# Altium integrated library Atmel Communication ICs.IntLib: 82 symbols (part 3 of 3)
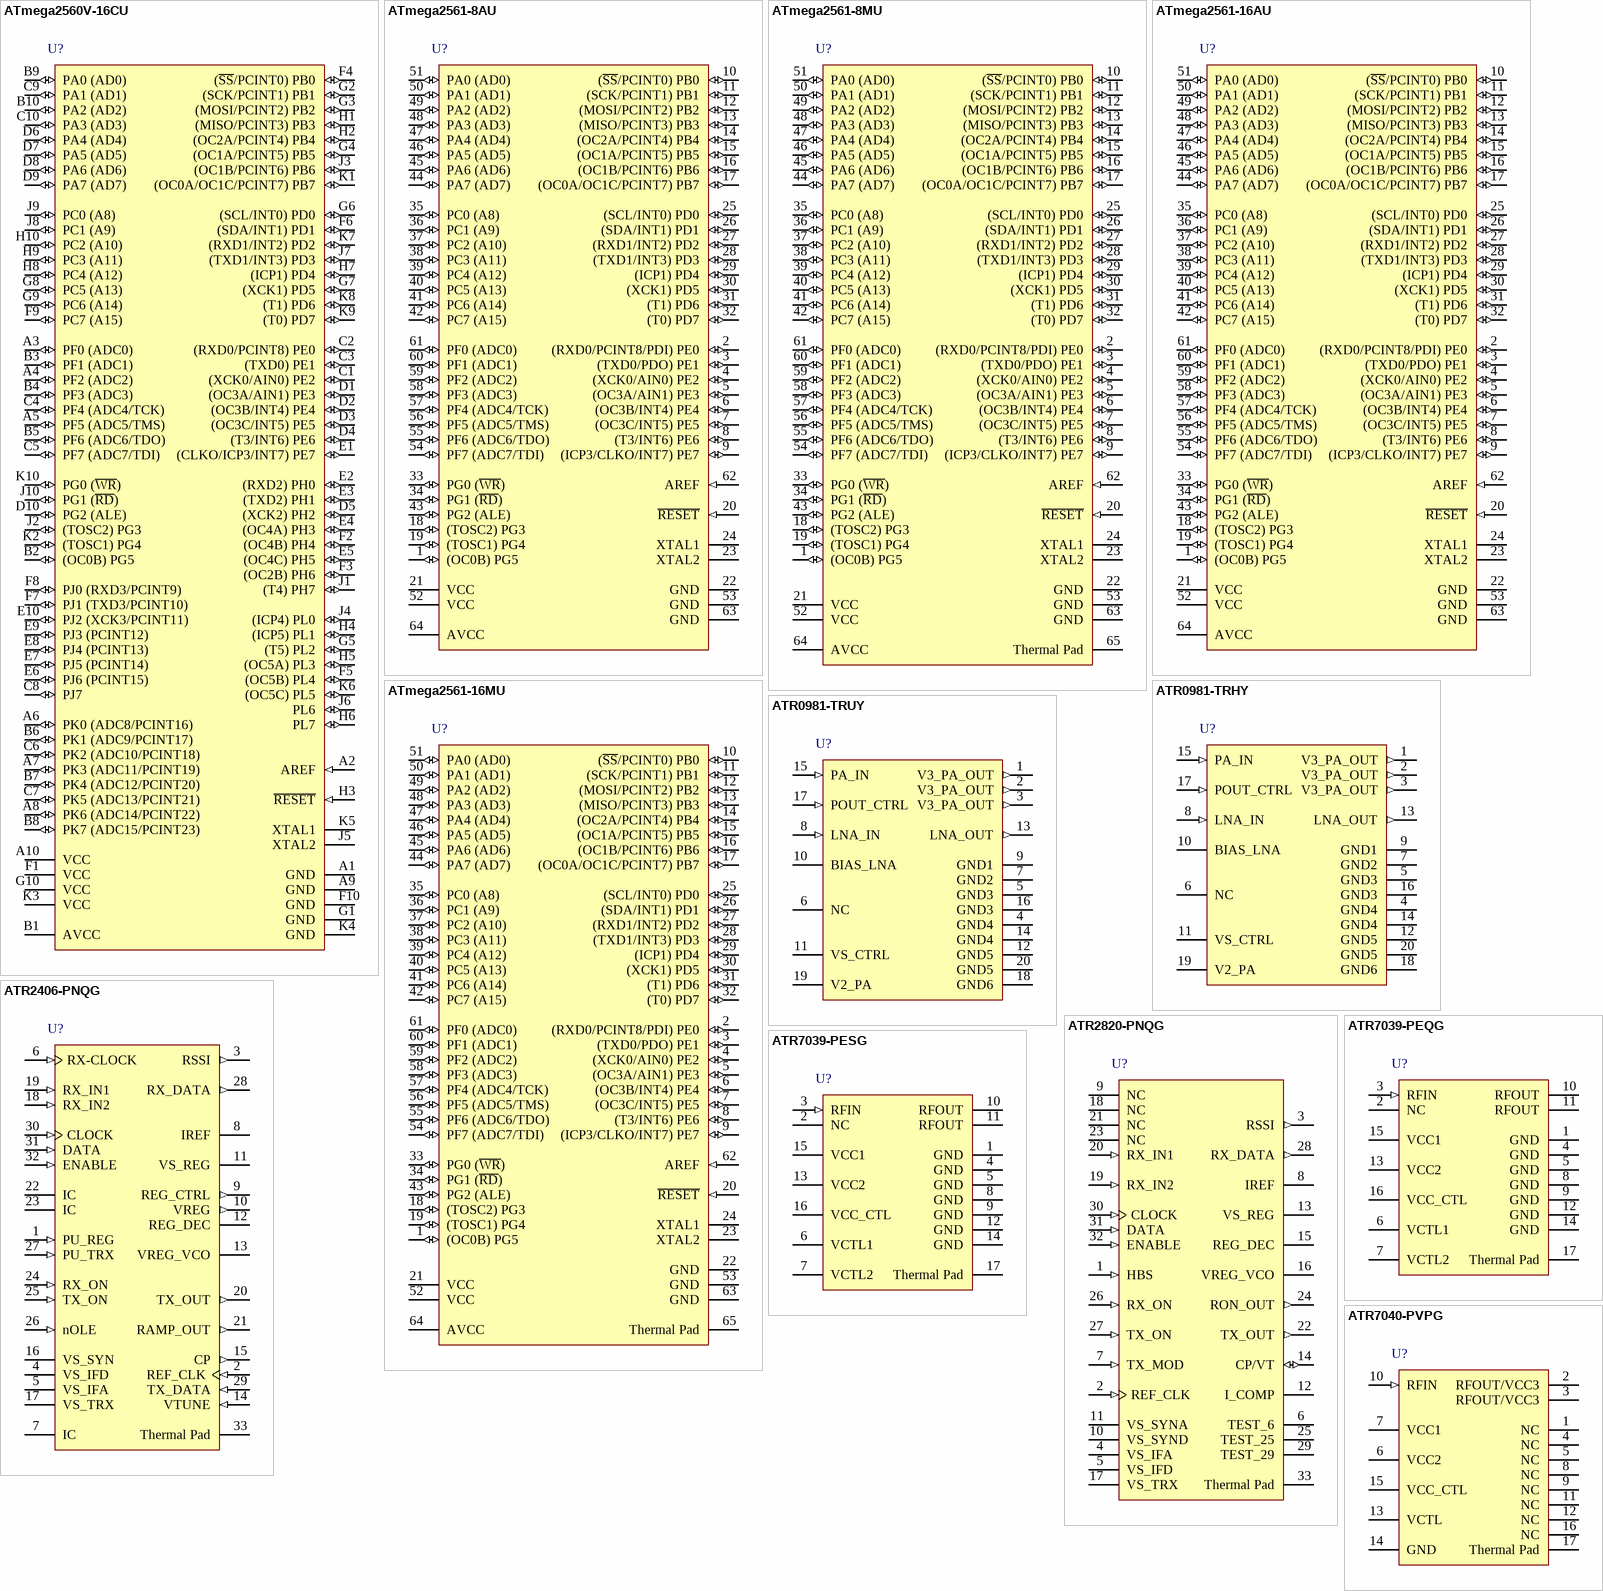
[diagram p10: symbols ATmega2560V-16CU to ATR7040-PVPG]

## ATR2406-PNQG
designator U?
Low-IF 2.4 GHz ISM Transceiver, 32-Pin QFN Pkg, Taped and Reeled, Pb-Free; DatasheetVersion: revN, Dec-2008; PackageVersion: rev1, Jan-2003; PackageReference: 32QFN5X5; PackageDescription: 32-Pin Quad Flat No-Lead (QFN) Sawn,  5 x 5 x 1.0 mm Body, Pitch 0.50 mm, 3.70mm Exposed Pad; ComponentLink1Description: Manufacturer URL; ComponentLink1URL: http://www.atmel.com/; ComponentLink2Description: ATR2406 Datasheet; ComponentLink2URL: http://www.atmel.com/dyn/resources/prod_documents/doc4779.pdf
footprint 32QFN5X5_N (QFN, 32-Leads, Body 5x5mm, Pitch 0.5mm, Thermal Pad 3.8x3.8mm, IPC Medium Density)
footprint 32QFN5X5_L (QFN, 32-Leads, Body 5x5mm, Pitch 0.5mm, Thermal Pad 3.8x3.8mm, IPC High Density)
footprint 32QFN5X5_M (QFN, 32-Leads, Body 5x5mm, Pitch 0.5mm, Thermal Pad 3.8x3.8mm, IPC Low Density)
pins: 1 PU_REG (in), 2 REF_CLK (in), 3 RSSI (out), 4 VS_IFD (power), 5 VS_IFA (power), 6 RX-CLOCK (in), 7 IC (power), 8 IREF, 9 REG_CTRL (out), 10 VREG (out), 11 VS_REG (power), 12 REG_DEC, 13 VREG_VCO (power), 14 VTUNE (in), 15 CP (out), 16 VS_SYN (power), 17 VS_TRX (power), 18 RX_IN2 (in), 19 RX_IN1 (in), 20 TX_OUT (out), 21 RAMP_OUT (out), 22 IC, 23 IC, 24 RX_ON (in), 25 TX_ON (in), 26 nOLE (in), 27 PU_TRX (in), 28 RX_DATA (out), 29 TX_DATA (in), 30 CLOCK (in), 31 DATA (in), 32 ENABLE (in), 33 Thermal Pad (power)

## ATR2820-PNQG
designator U?
Low IF WDCT 5.8 GHz Transceiver, 32-Pin QFN Pkg, Taped and Reeled; DatasheetVersion: revA, Jan-2010; PackageVersion: revH, Nov-2008; PackageReference: 32PN; PackageDescription: 32-Pin Quad Flat No-Lead, 5 x 5 mm Body,  0.5 mm Pitch (QFN); Code_JEDEC: MO-220-VHHD-2; ComponentLink1Description: Manufacturer URL; ComponentLink1URL: http://www.atmel.com/; ComponentLink2Description: ATR2820 Datasheet; ComponentLink2URL: http://www.atmel.com/dyn/resources/prod_documents/doc4704.pdf
footprint 32PN_N (QFN, 32-Leads, Body 5x5mm, Pitch 0.5mm, Thermal Pad 3.2x3.2mm, IPC Medium Density)
footprint 32PN_L (QFN, 32-Leads, Body 5x5mm, Pitch 0.5mm, Thermal Pad 3.2x3.2mm, IPC High Density)
footprint 32PN_M (QFN, 32-Leads, Body 5x5mm, Pitch 0.5mm, Thermal Pad 3.2x3.2mm, IPC Low Density)
pins: 1 HBS (in), 2 REF_CLK (in), 3 RSSI (out), 4 VS_IFA (power), 5 VS_IFD (power), 6 TEST_6, 7 TX_MOD (in), 8 IREF, 9 NC, 10 VS_SYND (power), 11 VS_SYNA (power), 12 I_COMP, 13 VS_REG (power), 14 CP/VT (io), 15 REG_DEC, 16 VREG_VCO (power), 17 VS_TRX (power), 18 NC, 19 RX_IN2 (in), 20 RX_IN1 (in), 21 NC, 22 TX_OUT (out), 23 NC, 24 RON_OUT (out), 25 TEST_25, 26 RX_ON (in), 27 TX_ON (in), 28 RX_DATA (out), 29 TEST_29, 30 CLOCK (in), 31 DATA (in), 32 ENABLE (in), 33 Thermal Pad (power)

## ATR7039-PEQG
designator U?
2.9 to 5.8 GHz SiGe Frequency Doubler IC, 16-Pin QFN Pkg, Taped and Reeled, MOQ 6000, Pb-Free; DatasheetVersion: revE, Jul-2005; PackageVersion: rev2, Jan-2003; PackageReference: 16QFN4X4; PackageDescription: 16-Pin Quad Flat No-Lead, 4 x 4 mm Body, 0.65 mm Pitch, 2.1 x 2.1 mm Exposed Pad; Code_JEDEC: MO-220; ComponentLink1Description: Manufacturer URL; ComponentLink1URL: http://www.atmel.com/; ComponentLink2Description: ATR7039 Datasheet; ComponentLink2URL: http://www.atmel.com/dyn/resources/prod_documents/doc4786.pdf
footprint 16QFN4X4_N (QFN, 16-Leads, Body 4x4mm, Pitch 0.65mm, Thermal Pad 2.2x2.2mm, IPC Medium Density)
footprint 16QFN4X4_L (QFN, 16-Leads, Body 4x4mm, Pitch 0.65mm, Thermal Pad 2.2x2.2mm, IPC High Density)
footprint 16QFN4X4_M (QFN, 16-Leads, Body 4x4mm, Pitch 0.65mm, Thermal Pad 2.2x2.2mm, IPC Low Density)
pins: 1 GND (power), 2 NC, 3 RFIN (in), 4 GND (power), 5 GND (power), 6 VCTL1 (power), 7 VCTL2 (power), 8 GND (power), 9 GND (power), 10 RFOUT (power), 11 RFOUT (power), 12 GND (power), 13 VCC2 (power), 14 GND (power), 15 VCC1 (power), 16 VCC_CTL (power), 17 Thermal Pad (power)

## ATR7039-PESG
designator U?
2.9 to 5.8 GHz SiGe Frequency Doubler IC, 16-Pin QFN Pkg, Tube, MOQ 750, Pb-Free; DatasheetVersion: revE, Jul-2005; PackageVersion: rev2, Jan-2003; PackageReference: 16QFN4X4; PackageDescription: 16-Pin Quad Flat No-Lead, 4 x 4 mm Body, 0.65 mm Pitch, 2.1 x 2.1 mm Exposed Pad; Code_JEDEC: MO-220; ComponentLink1Description: Manufacturer URL; ComponentLink1URL: http://www.atmel.com/; ComponentLink2Description: ATR7039 Datasheet; ComponentLink2URL: http://www.atmel.com/dyn/resources/prod_documents/doc4786.pdf
footprint 16QFN4X4_N (QFN, 16-Leads, Body 4x4mm, Pitch 0.65mm, Thermal Pad 2.2x2.2mm, IPC Medium Density)
footprint 16QFN4X4_L (QFN, 16-Leads, Body 4x4mm, Pitch 0.65mm, Thermal Pad 2.2x2.2mm, IPC High Density)
footprint 16QFN4X4_M (QFN, 16-Leads, Body 4x4mm, Pitch 0.65mm, Thermal Pad 2.2x2.2mm, IPC Low Density)
pins: 1 GND (power), 2 NC, 3 RFIN (in), 4 GND (power), 5 GND (power), 6 VCTL1 (power), 7 VCTL2 (power), 8 GND (power), 9 GND (power), 10 RFOUT (power), 11 RFOUT (power), 12 GND (power), 13 VCC2 (power), 14 GND (power), 15 VCC1 (power), 16 VCC_CTL (power), 17 Thermal Pad (power)

## ATR7040-PVPG
designator U?
5.8 GHz WDCT Power Amplifier, 16-Pin QFN Pkg, Taped and Reeled, MOQ 2000, Pb-Free; DatasheetVersion: revC, May-2006; PackageVersion: rev1, Mar-2005; PackageReference: 16QFN3X3; PackageDescription: 16-Pin Quad Flat No-Lead, 3 x 3 mm Body, 0.5 mm Pitch, 1.7 x 1.7 mm Exposed Pad; Code_JEDEC: MO-220; ComponentLink1Description: Manufacturer URL; ComponentLink1URL: http://www.atmel.com/; ComponentLink2Description: ATR7040 Datasheet; ComponentLink2URL: http://www.atmel.com/dyn/resources/prod_documents/doc4868.pdf
footprint 16QFN3X3_N (QFN, 16-Leads, Body 3x3mm, Pitch 0.5mm, Thermal Pad 1.8x1.8mm, IPC Medium Density)
footprint 16QFN3X3_L (QFN, 16-Leads, Body 3x3mm, Pitch 0.5mm, Thermal Pad 1.8x1.8mm, IPC High Density)
footprint 16QFN3X3_M (QFN, 16-Leads, Body 3x3mm, Pitch 0.5mm, Thermal Pad 1.8x1.8mm, IPC Low Density)
pins: 1 NC, 2 RFOUT/VCC3 (power), 3 RFOUT/VCC3 (power), 4 NC, 5 NC, 6 VCC2 (power), 7 VCC1 (power), 8 NC, 9 NC, 10 RFIN (in), 11 NC, 12 NC, 13 VCTL (power), 14 GND (power), 15 VCC_CTL (power), 16 NC, 17 Thermal Pad (power)

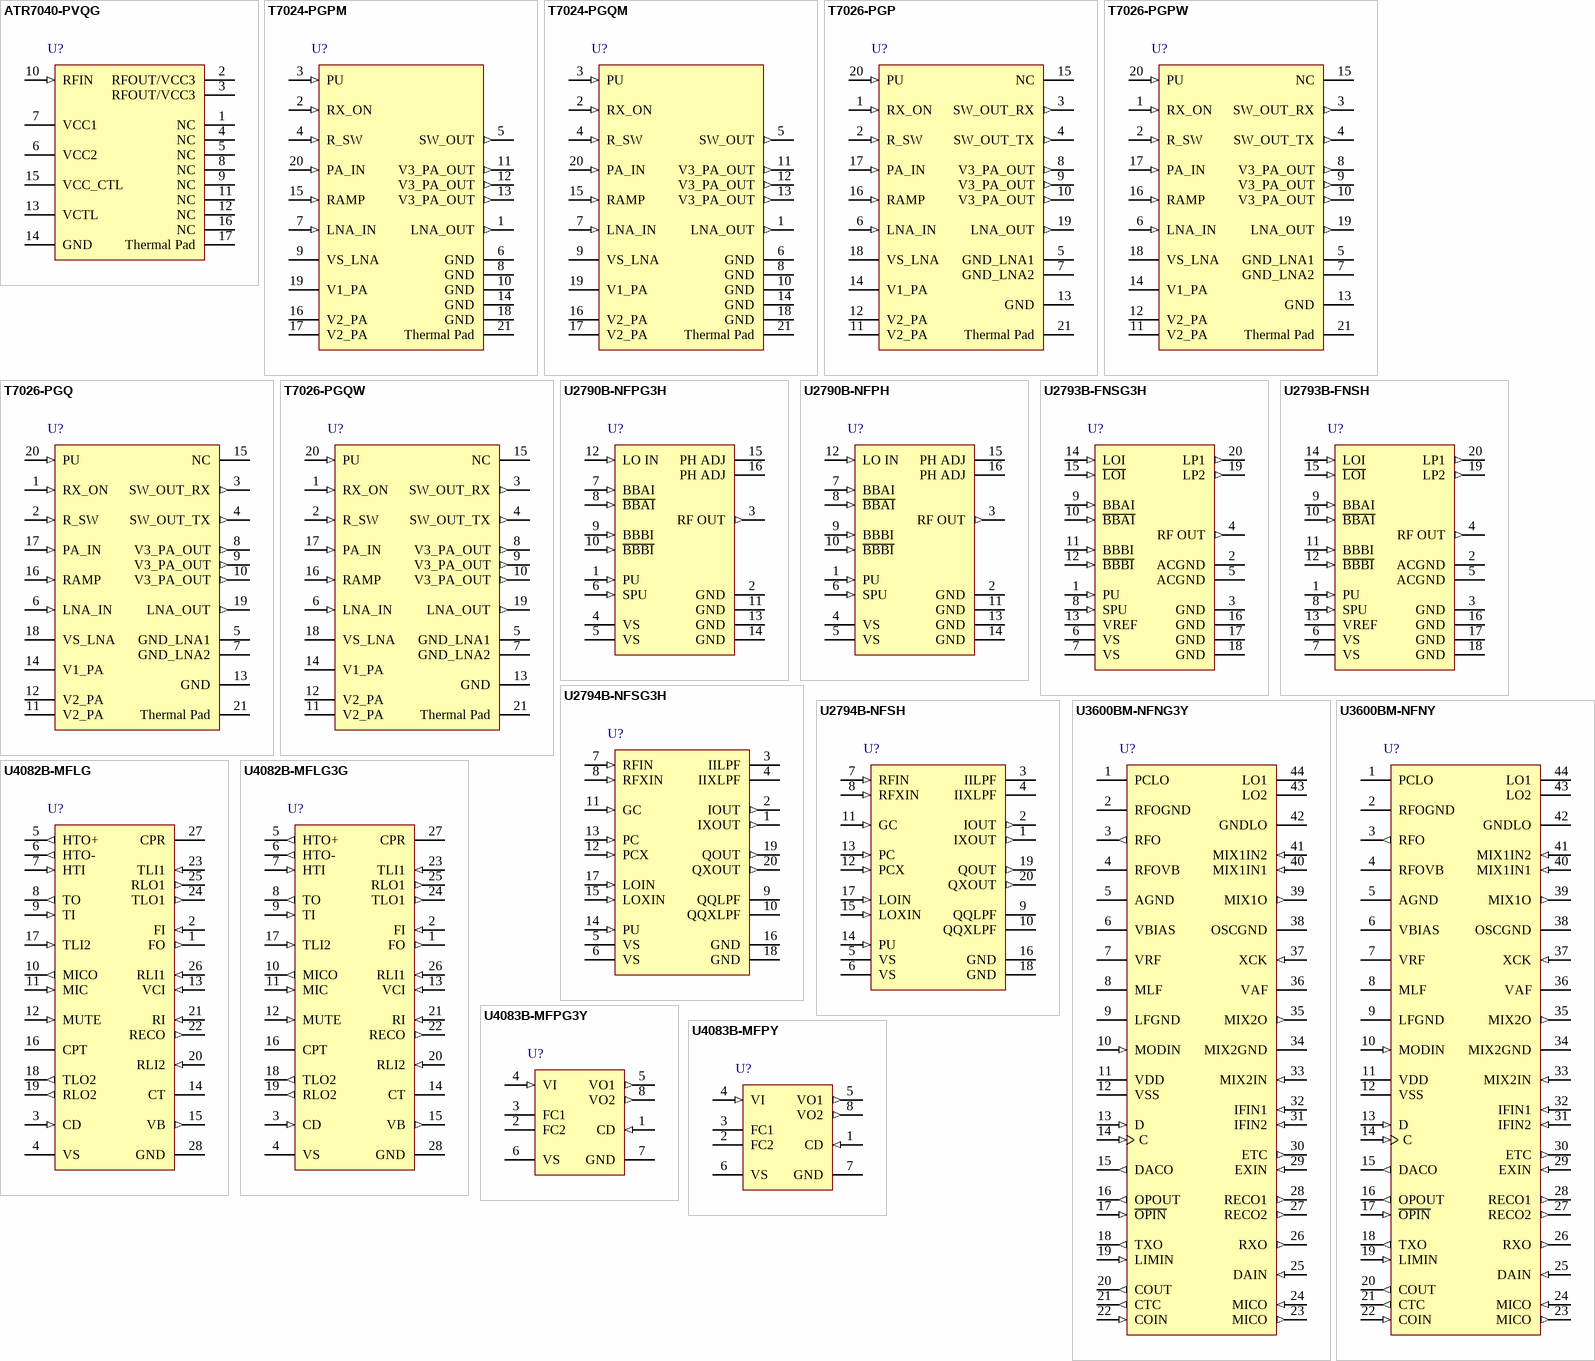
[diagram p7: symbols ATR7040-PVQG to U4083B-MFPY]

## ATR7040-PVQG
designator U?
5.8 GHz WDCT Power Amplifier, 16-Pin QFN Pkg, Taped and Reeled, MOQ 8000, Pb-Free; DatasheetVersion: revC, May-2006; PackageVersion: rev1, Mar-2005; PackageReference: 16QFN3X3; PackageDescription: 16-Pin Quad Flat No-Lead, 3 x 3 mm Body, 0.5 mm Pitch, 1.7 x 1.7 mm Exposed Pad; Code_JEDEC: MO-220; ComponentLink1Description: Manufacturer URL; ComponentLink1URL: http://www.atmel.com/; ComponentLink2Description: ATR7040 Datasheet; ComponentLink2URL: http://www.atmel.com/dyn/resources/prod_documents/doc4868.pdf
footprint 16QFN3X3_N (QFN, 16-Leads, Body 3x3mm, Pitch 0.5mm, Thermal Pad 1.8x1.8mm, IPC Medium Density)
footprint 16QFN3X3_L (QFN, 16-Leads, Body 3x3mm, Pitch 0.5mm, Thermal Pad 1.8x1.8mm, IPC High Density)
footprint 16QFN3X3_M (QFN, 16-Leads, Body 3x3mm, Pitch 0.5mm, Thermal Pad 1.8x1.8mm, IPC Low Density)
pins: 1 NC, 2 RFOUT/VCC3 (power), 3 RFOUT/VCC3 (power), 4 NC, 5 NC, 6 VCC2 (power), 7 VCC1 (power), 8 NC, 9 NC, 10 RFIN (in), 11 NC, 12 NC, 13 VCTL (power), 14 GND (power), 15 VCC_CTL (power), 16 NC, 17 Thermal Pad (power)

## T7024-PGPM
designator U?
Bluetooth ISM 2.4 GHz Tx/Rx Front End IC, 20-Pin QFN Pkg, Taped and Reeled, Pb-Free, Halogen-Free, 1500 pcs; DatasheetVersion: revI, Jan-2009; PackageVersion: rev1, Dec-2002; PackageReference: QFN20; PackageDescription: 20-Pin Quad Flat No-Lead, 5 x 5 mm Body, 0.65 mm Pitch, 3.1 x 3.1 mm Exposed Pad; ComponentLink1Description: Manufacturer URL; ComponentLink1URL: http://www.atmel.com/; ComponentLink2Description: T7024 Datasheet; ComponentLink2URL: http://www.atmel.com/dyn/resources/prod_documents/doc4533.pdf
footprint QFN20_N (QFN, 20-Leads, Body 5x5mm, Pitch 0.65mm, Thermal Pad 3.2x3.2mm, IPC Medium Density)
footprint QFN20_L (QFN, 20-Leads, Body 5x5mm, Pitch 0.65mm, Thermal Pad 3.2x3.2mm, IPC High Density)
footprint QFN20_M (QFN, 20-Leads, Body 5x5mm, Pitch 0.65mm, Thermal Pad 3.2x3.2mm, IPC Low Density)
pins: 1 LNA_OUT (out), 2 RX_ON (in), 3 PU (in), 4 R_SW (in), 5 SW_OUT (out), 6 GND (power), 7 LNA_IN (in), 8 GND (power), 9 VS_LNA (power), 10 GND (power), 11 V3_PA_OUT (out), 12 V3_PA_OUT (out), 13 V3_PA_OUT (out), 14 GND (power), 15 RAMP (in), 16 V2_PA (power), 17 V2_PA (power), 18 GND (power), 19 V1_PA (power), 20 PA_IN (in), 21 Thermal Pad (power)

## T7024-PGQM
designator U?
Bluetooth ISM 2.4 GHz Tx/Rx Front End IC, 20-Pin QFN Pkg, Taped and Reeled, Pb-Free, Halogen-Free, 6000 pcs; DatasheetVersion: revI, Jan-2009; PackageVersion: rev1, Dec-2002; PackageReference: QFN20; PackageDescription: 20-Pin Quad Flat No-Lead, 5 x 5 mm Body, 0.65 mm Pitch, 3.1 x 3.1 mm Exposed Pad; ComponentLink1Description: Manufacturer URL; ComponentLink1URL: http://www.atmel.com/; ComponentLink2Description: T7024 Datasheet; ComponentLink2URL: http://www.atmel.com/dyn/resources/prod_documents/doc4533.pdf
footprint QFN20_N (QFN, 20-Leads, Body 5x5mm, Pitch 0.65mm, Thermal Pad 3.2x3.2mm, IPC Medium Density)
footprint QFN20_L (QFN, 20-Leads, Body 5x5mm, Pitch 0.65mm, Thermal Pad 3.2x3.2mm, IPC High Density)
footprint QFN20_M (QFN, 20-Leads, Body 5x5mm, Pitch 0.65mm, Thermal Pad 3.2x3.2mm, IPC Low Density)
pins: 1 LNA_OUT (out), 2 RX_ON (in), 3 PU (in), 4 R_SW (in), 5 SW_OUT (out), 6 GND (power), 7 LNA_IN (in), 8 GND (power), 9 VS_LNA (power), 10 GND (power), 11 V3_PA_OUT (out), 12 V3_PA_OUT (out), 13 V3_PA_OUT (out), 14 GND (power), 15 RAMP (in), 16 V2_PA (power), 17 V2_PA (power), 18 GND (power), 19 V1_PA (power), 20 PA_IN (in), 21 Thermal Pad (power)

## T7026-PGP
designator U?
2.4 GHz Monolithic SiGe Transmit/Receive front-end IC, 20-Pin QFN Pkg, Taped and Reeled, MOQ 1500; DatasheetVersion: revE, Jul-2005; PackageVersion: rev1, Dec-2002; PackageReference: QFN20; PackageDescription: 20-Pin Quad Flat No-Lead, 5 x 5 mm Body, 0.65 mm Pitch, 3.1 x 3.1 mm Exposed Pad; ComponentLink1Description: Manufacturer URL; ComponentLink1URL: http://www.atmel.com/; ComponentLink2Description: T7026 Datasheet; ComponentLink2URL: http://www.atmel.com/dyn/resources/prod_documents/doc4563.pdf
footprint QFN20_N (QFN, 20-Leads, Body 5x5mm, Pitch 0.65mm, Thermal Pad 3.2x3.2mm, IPC Medium Density)
footprint QFN20_L (QFN, 20-Leads, Body 5x5mm, Pitch 0.65mm, Thermal Pad 3.2x3.2mm, IPC High Density)
footprint QFN20_M (QFN, 20-Leads, Body 5x5mm, Pitch 0.65mm, Thermal Pad 3.2x3.2mm, IPC Low Density)
pins: 1 RX_ON (in), 2 R_SW (in), 3 SW_OUT_RX (out), 4 SW_OUT_TX (out), 5 GND_LNA1 (power), 6 LNA_IN (in), 7 GND_LNA2 (power), 8 V3_PA_OUT (out), 9 V3_PA_OUT (out), 10 V3_PA_OUT (out), 11 V2_PA (power), 12 V2_PA (power), 13 GND (power), 14 V1_PA (power), 15 NC, 16 RAMP (in), 17 PA_IN (in), 18 VS_LNA (power), 19 LNA_OUT (out), 20 PU (in), 21 Thermal Pad (power)

## T7026-PGPW
designator U?
2.4 GHz Monolithic SiGe Transmit/Receive front-end IC, 20-Pin QFN Pkg, Taped and Reeled, MOQ 1500, Pb-Free, Halogen-Free; DatasheetVersion: revE, Jul-2005; PackageVersion: rev1, Dec-2002; PackageReference: QFN20; PackageDescription: 20-Pin Quad Flat No-Lead, 5 x 5 mm Body, 0.65 mm Pitch, 3.1 x 3.1 mm Exposed Pad; ComponentLink1Description: Manufacturer URL; ComponentLink1URL: http://www.atmel.com/; ComponentLink2Description: T7026 Datasheet; ComponentLink2URL: http://www.atmel.com/dyn/resources/prod_documents/doc4563.pdf
footprint QFN20_N (QFN, 20-Leads, Body 5x5mm, Pitch 0.65mm, Thermal Pad 3.2x3.2mm, IPC Medium Density)
footprint QFN20_L (QFN, 20-Leads, Body 5x5mm, Pitch 0.65mm, Thermal Pad 3.2x3.2mm, IPC High Density)
footprint QFN20_M (QFN, 20-Leads, Body 5x5mm, Pitch 0.65mm, Thermal Pad 3.2x3.2mm, IPC Low Density)
pins: 1 RX_ON (in), 2 R_SW (in), 3 SW_OUT_RX (out), 4 SW_OUT_TX (out), 5 GND_LNA1 (power), 6 LNA_IN (in), 7 GND_LNA2 (power), 8 V3_PA_OUT (out), 9 V3_PA_OUT (out), 10 V3_PA_OUT (out), 11 V2_PA (power), 12 V2_PA (power), 13 GND (power), 14 V1_PA (power), 15 NC, 16 RAMP (in), 17 PA_IN (in), 18 VS_LNA (power), 19 LNA_OUT (out), 20 PU (in), 21 Thermal Pad (power)

## T7026-PGQ
designator U?
2.4 GHz Monolithic SiGe Transmit/Receive front-end IC, 20-Pin QFN Pkg, Taped and Reeled, MOQ 6000; DatasheetVersion: revE, Jul-2005; PackageVersion: rev1, Dec-2002; PackageReference: QFN20; PackageDescription: 20-Pin Quad Flat No-Lead, 5 x 5 mm Body, 0.65 mm Pitch, 3.1 x 3.1 mm Exposed Pad; ComponentLink1Description: Manufacturer URL; ComponentLink1URL: http://www.atmel.com/; ComponentLink2Description: T7026 Datasheet; ComponentLink2URL: http://www.atmel.com/dyn/resources/prod_documents/doc4563.pdf
footprint QFN20_N (QFN, 20-Leads, Body 5x5mm, Pitch 0.65mm, Thermal Pad 3.2x3.2mm, IPC Medium Density)
footprint QFN20_L (QFN, 20-Leads, Body 5x5mm, Pitch 0.65mm, Thermal Pad 3.2x3.2mm, IPC High Density)
footprint QFN20_M (QFN, 20-Leads, Body 5x5mm, Pitch 0.65mm, Thermal Pad 3.2x3.2mm, IPC Low Density)
pins: 1 RX_ON (in), 2 R_SW (in), 3 SW_OUT_RX (out), 4 SW_OUT_TX (out), 5 GND_LNA1 (power), 6 LNA_IN (in), 7 GND_LNA2 (power), 8 V3_PA_OUT (out), 9 V3_PA_OUT (out), 10 V3_PA_OUT (out), 11 V2_PA (power), 12 V2_PA (power), 13 GND (power), 14 V1_PA (power), 15 NC, 16 RAMP (in), 17 PA_IN (in), 18 VS_LNA (power), 19 LNA_OUT (out), 20 PU (in), 21 Thermal Pad (power)

## T7026-PGQW
designator U?
2.4 GHz Monolithic SiGe Transmit/Receive front-end IC, 20-Pin QFN Pkg, Taped and Reeled, MOQ 6000, Pb-Free, Halogen-Free; DatasheetVersion: revE, Jul-2005; PackageVersion: rev1, Dec-2002; PackageReference: QFN20; PackageDescription: 20-Pin Quad Flat No-Lead, 5 x 5 mm Body, 0.65 mm Pitch, 3.1 x 3.1 mm Exposed Pad; ComponentLink1Description: Manufacturer URL; ComponentLink1URL: http://www.atmel.com/; ComponentLink2Description: T7026 Datasheet; ComponentLink2URL: http://www.atmel.com/dyn/resources/prod_documents/doc4563.pdf
footprint QFN20_N (QFN, 20-Leads, Body 5x5mm, Pitch 0.65mm, Thermal Pad 3.2x3.2mm, IPC Medium Density)
footprint QFN20_L (QFN, 20-Leads, Body 5x5mm, Pitch 0.65mm, Thermal Pad 3.2x3.2mm, IPC High Density)
footprint QFN20_M (QFN, 20-Leads, Body 5x5mm, Pitch 0.65mm, Thermal Pad 3.2x3.2mm, IPC Low Density)
pins: 1 RX_ON (in), 2 R_SW (in), 3 SW_OUT_RX (out), 4 SW_OUT_TX (out), 5 GND_LNA1 (power), 6 LNA_IN (in), 7 GND_LNA2 (power), 8 V3_PA_OUT (out), 9 V3_PA_OUT (out), 10 V3_PA_OUT (out), 11 V2_PA (power), 12 V2_PA (power), 13 GND (power), 14 V1_PA (power), 15 NC, 16 RAMP (in), 17 PA_IN (in), 18 VS_LNA (power), 19 LNA_OUT (out), 20 PU (in), 21 Thermal Pad (power)

## U2790B-NFPG3H
designator U?
1000 MHz Quadrature Modulator for Digital Cellular Radio Systems, 16-Pin SOIC Pkg, Taped and Reeled, Pb-Free; DatasheetVersion: revD, Jul-2006; PackageVersion: 1/02/2007; PackageReference: SO16; PackageDescription: 16-Pin Small Outline Integrated Circuit 1.27 mm Pitch; ComponentLink1Description: Manufacturer URL; ComponentLink1URL: http://www.atmel.com/; ComponentLink2Description: U2790B Datasheet; ComponentLink2URL: http://www.atmel.com/dyn/resources/prod_documents/doc4583.pdf
footprint SO16_N (SOIC, 16-Leads, Body 9.9x3.8mm, Pitch 1.27mm, IPC Medium Density)
footprint SO16_L (SOIC, 16-Leads, Body 9.9x3.8mm, Pitch 1.27mm, IPC High Density)
footprint SO16_M (SOIC, 16-Leads, Body 9.9x3.8mm, Pitch 1.27mm, IPC Low Density)
pins: 1 PU (in), 2 GND (power), 3 RF OUT (out), 4 VS (power), 5 VS (power), 6 SPU (in), 7 BBAI (in), 8 ~{BBAI} (in), 9 BBBI (in), 10 ~{BBBI} (in), 11 GND (power), 12 LO IN (in), 13 GND (power), 14 GND (power), 15 PH ADJ, 16 PH ADJ

## U2790B-NFPH
designator U?
1000 MHz Quadrature Modulator for Digital Cellular Radio Systems, 16-Pin SOIC Pkg, Tube, Pb-Free; DatasheetVersion: revD, Jul-2006; PackageVersion: 1/02/2007; PackageReference: SO16; PackageDescription: 16-Pin Small Outline Integrated Circuit 1.27 mm Pitch; ComponentLink1Description: Manufacturer URL; ComponentLink1URL: http://www.atmel.com/; ComponentLink2Description: U2790B Datasheet; ComponentLink2URL: http://www.atmel.com/dyn/resources/prod_documents/doc4583.pdf
footprint SO16_N (SOIC, 16-Leads, Body 9.9x3.8mm, Pitch 1.27mm, IPC Medium Density)
footprint SO16_L (SOIC, 16-Leads, Body 9.9x3.8mm, Pitch 1.27mm, IPC High Density)
footprint SO16_M (SOIC, 16-Leads, Body 9.9x3.8mm, Pitch 1.27mm, IPC Low Density)
pins: 1 PU (in), 2 GND (power), 3 RF OUT (out), 4 VS (power), 5 VS (power), 6 SPU (in), 7 BBAI (in), 8 ~{BBAI} (in), 9 BBBI (in), 10 ~{BBBI} (in), 11 GND (power), 12 LO IN (in), 13 GND (power), 14 GND (power), 15 PH ADJ, 16 PH ADJ

## U2793B-FNSG3H
designator U?
300 MHz Quadrature Modulator for Digital Cellular Radio Systems & Hybrid Fiber Coax Applications, 20-Pin SSOP Pkg, Taped and Reeled, Pb-Free; DatasheetVersion: revE, Jul-2006; PackageVersion: 1/09/2005; PackageReference: SSO20; PackageDescription: 20-Pin Shrink SOP, 6.6 x 4.4 x 1.3 mm Body, 0.65 mm Pitch; ComponentLink1Description: Manufacturer URL; ComponentLink1URL: http://www.atmel.com/; ComponentLink2Description: U2793B Datasheet; ComponentLink2URL: http://www.atmel.com/dyn/resources/prod_documents/doc4651.pdf
footprint SSO20_N (SOP, 20-Leads, Body 6.6x4.4mm, Pitch 0.65mm, IPC Medium Density)
footprint SSO20_L (SOP, 20-Leads, Body 6.6x4.4mm, Pitch 0.65mm, IPC High Density)
footprint SSO20_M (SOP, 20-Leads, Body 6.6x4.4mm, Pitch 0.65mm, IPC Low Density)
pins: 1 PU (in), 2 ACGND (power), 3 GND (power), 4 RF OUT (out), 5 ACGND (power), 6 VS (power), 7 VS (power), 8 SPU (in), 9 BBAI (in), 10 ~{BBAI} (in), 11 BBBI (in), 12 ~{BBBI} (in), 13 VREF (power), 14 LOI (in), 15 ~{LOI} (in), 16 GND (power), 17 GND (power), 18 GND (power), 19 LP2 (out), 20 LP1 (out)

## U2793B-FNSH
designator U?
300 MHz Quadrature Modulator for Digital Cellular Radio Systems & Hybrid Fiber Coax Applications, 20-Pin SSOP Pkg, Tube, Pb-Free; DatasheetVersion: revE, Jul-2006; PackageVersion: 1/09/2005; PackageReference: SSO20; PackageDescription: 20-Pin Shrink SOP, 6.6 x 4.4 x 1.3 mm Body, 0.65 mm Pitch; ComponentLink1Description: Manufacturer URL; ComponentLink1URL: http://www.atmel.com/; ComponentLink2Description: U2793B Datasheet; ComponentLink2URL: http://www.atmel.com/dyn/resources/prod_documents/doc4651.pdf
footprint SSO20_N (SOP, 20-Leads, Body 6.6x4.4mm, Pitch 0.65mm, IPC Medium Density)
footprint SSO20_L (SOP, 20-Leads, Body 6.6x4.4mm, Pitch 0.65mm, IPC High Density)
footprint SSO20_M (SOP, 20-Leads, Body 6.6x4.4mm, Pitch 0.65mm, IPC Low Density)
pins: 1 PU (in), 2 ACGND (power), 3 GND (power), 4 RF OUT (out), 5 ACGND (power), 6 VS (power), 7 VS (power), 8 SPU (in), 9 BBAI (in), 10 ~{BBAI} (in), 11 BBBI (in), 12 ~{BBBI} (in), 13 VREF (power), 14 LOI (in), 15 ~{LOI} (in), 16 GND (power), 17 GND (power), 18 GND (power), 19 LP2 (out), 20 LP1 (out)

## U2794B-NFSG3H
designator U?
1000 MHz Quadrature Demodulator for Cellular Phones & Hybrid Fiber Coax Applications, 20-Pin SSOP Pkg, Taped and Reeled, MOQ 4000 pcs, Pb-Free; DatasheetVersion: revF, Nov-2008; PackageVersion: 1/09/2005; PackageReference: SSO20; PackageDescription: 20-Pin Shrink SOP, 6.6 x 4.4 x 1.3 mm Body, 0.65 mm Pitch; ComponentLink1Description: Manufacturer URL; ComponentLink1URL: http://www.atmel.com/; ComponentLink2Description: U2794B Datasheet; ComponentLink2URL: http://www.atmel.com/dyn/resources/prod_documents/doc4653.pdf
footprint SSO20_N (SOP, 20-Leads, Body 6.6x4.4mm, Pitch 0.65mm, IPC Medium Density)
footprint SSO20_L (SOP, 20-Leads, Body 6.6x4.4mm, Pitch 0.65mm, IPC High Density)
footprint SSO20_M (SOP, 20-Leads, Body 6.6x4.4mm, Pitch 0.65mm, IPC Low Density)
pins: 1 IXOUT (out), 2 IOUT (out), 3 IILPF, 4 IIXLPF, 5 VS (power), 6 VS (power), 7 RFIN (in), 8 RFXIN (in), 9 QQLPF, 10 QQXLPF, 11 GC (in), 12 PCX (in), 13 PC (in), 14 PU (in), 15 LOXIN (in), 16 GND (power), 17 LOIN (in), 18 GND (power), 19 QOUT (out), 20 QXOUT (out)

## U2794B-NFSH
designator U?
1000 MHz Quadrature Demodulator for Cellular Phones & Hybrid Fiber Coax Applications, 20-Pin SSOP Pkg, Tube, MOQ 830 pcs, Pb-Free; DatasheetVersion: revF, Nov-2008; PackageVersion: 1/09/2005; PackageReference: SSO20; PackageDescription: 20-Pin Shrink SOP, 6.6 x 4.4 x 1.3 mm Body, 0.65 mm Pitch; ComponentLink1Description: Manufacturer URL; ComponentLink1URL: http://www.atmel.com/; ComponentLink2Description: U2794B Datasheet; ComponentLink2URL: http://www.atmel.com/dyn/resources/prod_documents/doc4653.pdf
footprint SSO20_N (SOP, 20-Leads, Body 6.6x4.4mm, Pitch 0.65mm, IPC Medium Density)
footprint SSO20_L (SOP, 20-Leads, Body 6.6x4.4mm, Pitch 0.65mm, IPC High Density)
footprint SSO20_M (SOP, 20-Leads, Body 6.6x4.4mm, Pitch 0.65mm, IPC Low Density)
pins: 1 IXOUT (out), 2 IOUT (out), 3 IILPF, 4 IIXLPF, 5 VS (power), 6 VS (power), 7 RFIN (in), 8 RFXIN (in), 9 QQLPF, 10 QQXLPF, 11 GC (in), 12 PCX (in), 13 PC (in), 14 PU (in), 15 LOXIN (in), 16 GND (power), 17 LOIN (in), 18 GND (power), 19 QOUT (out), 20 QXOUT (out)

## U3600BM-NFNG3Y
designator U?
Single-Chip cordless Telephone IC, 44-Pin SOP Pkg, Taped and Reeled, Pb-Free; DatasheetVersion: revD, Oct-2005; PackageVersion: 1/10/2005; PackageReference: SSO44; PackageDescription: 44-Pin Small Outline Package, 18.05 x 7.4 x 2.35 mm Body, 0.8 mm Pitch; ComponentLink1Description: Manufacturer URL; ComponentLink1URL: http://www.atmel.com/; ComponentLink2Description: U3600BM Datasheet; ComponentLink2URL: http://www.atmel.com/dyn/resources/prod_documents/doc4516.pdf
footprint SSO44_N (SOP, 44-Leads, Body 17.9x7.4mm, Pitch 0.8mm, IPC Medium Density)
footprint SSO44_L (SOP, 44-Leads, Body 17.9x7.4mm, Pitch 0.8mm, IPC High Density)
footprint SSO44_M (SOP, 44-Leads, Body 17.9x7.4mm, Pitch 0.8mm, IPC Low Density)
pins: 1 PCLO, 2 RFOGND (power), 3 RFO (out), 4 RFOVB (power), 5 AGND (power), 6 VBIAS, 7 VRF (power), 8 MLF, 9 LFGND (power), 10 MODIN (in), 11 VDD (power), 12 VSS (power), 13 D (in), 14 C (in), 15 DACO (out), 16 OPOUT (out), 17 ~{OPIN} (in), 18 TXO (out), 19 LIMIN (in), 20 COUT (out), 21 CTC (out), 22 COIN (in), 23 MICO (out), 24 MICO (in), 25 DAIN (in), 26 RXO (out), 27 RECO2 (out), 28 RECO1 (out), 29 EXIN (in), 30 ETC (out), 31 IFIN2 (in), 32 IFIN1 (in), 33 MIX2IN (in), 34 MIX2GND (power), 35 MIX2O (out), 36 VAF (power), 37 XCK (in), 38 OSCGND (power), 39 MIX1O (out), 40 MIX1IN1 (in), 41 MIX1IN2 (in), 42 GNDLO (power), 43 LO2, 44 LO1

## U3600BM-NFNY
designator U?
Single-Chip cordless Telephone IC, 44-Pin SOP Pkg, Tube, Pb-Free; DatasheetVersion: revD, Oct-2005; PackageVersion: 1/10/2005; PackageReference: SSO44; PackageDescription: 44-Pin Small Outline Package, 18.05 x 7.4 x 2.35 mm Body, 0.8 mm Pitch; ComponentLink1Description: Manufacturer URL; ComponentLink1URL: http://www.atmel.com/; ComponentLink2Description: U3600BM Datasheet; ComponentLink2URL: http://www.atmel.com/dyn/resources/prod_documents/doc4516.pdf
footprint SSO44_N (SOP, 44-Leads, Body 17.9x7.4mm, Pitch 0.8mm, IPC Medium Density)
footprint SSO44_L (SOP, 44-Leads, Body 17.9x7.4mm, Pitch 0.8mm, IPC High Density)
footprint SSO44_M (SOP, 44-Leads, Body 17.9x7.4mm, Pitch 0.8mm, IPC Low Density)
pins: 1 PCLO, 2 RFOGND (power), 3 RFO (out), 4 RFOVB (power), 5 AGND (power), 6 VBIAS, 7 VRF (power), 8 MLF, 9 LFGND (power), 10 MODIN (in), 11 VDD (power), 12 VSS (power), 13 D (in), 14 C (in), 15 DACO (out), 16 OPOUT (out), 17 ~{OPIN} (in), 18 TXO (out), 19 LIMIN (in), 20 COUT (out), 21 CTC (out), 22 COIN (in), 23 MICO (out), 24 MICO (in), 25 DAIN (in), 26 RXO (out), 27 RECO2 (out), 28 RECO1 (out), 29 EXIN (in), 30 ETC (out), 31 IFIN2 (in), 32 IFIN1 (in), 33 MIX2IN (in), 34 MIX2GND (power), 35 MIX2O (out), 36 VAF (power), 37 XCK (in), 38 OSCGND (power), 39 MIX1O (out), 40 MIX1IN1 (in), 41 MIX1IN2 (in), 42 GNDLO (power), 43 LO2, 44 LO1

## U4082B-MFLG
designator U?
Low-Voltage Voice-Switched IC for Hands-Free Operation, 28-Pin SOIC Pkg, Tube, Pb-Free; DatasheetVersion: revD, Mar-2006; PackageVersion: 1/01/2007; PackageReference: SO28; PackageDescription: 28-Pin Small Outline Package ,17.9 x 7.5 mm Body, 1.27 mm Pitch; ComponentLink1Description: Manufacturer URL; ComponentLink1URL: http://www.atmel.com/; ComponentLink2Description: U4082B Datasheet; ComponentLink2URL: http://www.atmel.com/dyn/resources/prod_documents/doc4743.pdf
footprint SO28_N (SOIC, 28-Leads, Body 17.9x7.5mm, Pitch 1.27mm, IPC Medium Density)
footprint SO28_L (SOIC, 28-Leads, Body 17.9x7.5mm, Pitch 1.27mm, IPC High Density)
footprint SO28_M (SOIC, 28-Leads, Body 17.9x7.5mm, Pitch 1.27mm, IPC Low Density)
pins: 1 FO (out), 2 FI (in), 3 CD (in), 4 VS (power), 5 HTO+ (out), 6 HTO- (out), 7 HTI (in), 8 TO (out), 9 TI (in), 10 MICO (out), 11 MIC (in), 12 MUTE (in), 13 VCI (in), 14 CT, 15 VB (out), 16 CPT, 17 TLI2 (in), 18 TLO2 (out), 19 RLO2 (out), 20 RLI2 (in), 21 RI (in), 22 RECO (out), 23 TLI1 (in), 24 TLO1 (out), 25 RLO1 (out), 26 RLI1 (in), 27 CPR, 28 GND (power)

## U4082B-MFLG3G
designator U?
Low-Voltage Voice-Switched IC for Hands-Free Operation, 28-Pin SOIC Pkg, Taped and Reeled, Pb-Free; DatasheetVersion: revD, Mar-2006; PackageVersion: 1/01/2007; PackageReference: SO28; PackageDescription: 28-Pin Small Outline Package ,17.9 x 7.5 mm Body, 1.27 mm Pitch; ComponentLink1Description: Manufacturer URL; ComponentLink1URL: http://www.atmel.com/; ComponentLink2Description: U4082B Datasheet; ComponentLink2URL: http://www.atmel.com/dyn/resources/prod_documents/doc4743.pdf
footprint SO28_N (SOIC, 28-Leads, Body 17.9x7.5mm, Pitch 1.27mm, IPC Medium Density)
footprint SO28_L (SOIC, 28-Leads, Body 17.9x7.5mm, Pitch 1.27mm, IPC High Density)
footprint SO28_M (SOIC, 28-Leads, Body 17.9x7.5mm, Pitch 1.27mm, IPC Low Density)
pins: 1 FO (out), 2 FI (in), 3 CD (in), 4 VS (power), 5 HTO+ (out), 6 HTO- (out), 7 HTI (in), 8 TO (out), 9 TI (in), 10 MICO (out), 11 MIC (in), 12 MUTE (in), 13 VCI (in), 14 CT, 15 VB (out), 16 CPT, 17 TLI2 (in), 18 TLO2 (out), 19 RLO2 (out), 20 RLI2 (in), 21 RI (in), 22 RECO (out), 23 TLI1 (in), 24 TLO1 (out), 25 RLO1 (out), 26 RLI1 (in), 27 CPR, 28 GND (power)

## U4083B-MFPG3Y
designator U?
Low-power Audio Amplifier for Telephone Applications, 8-Pin SOIC Pkg, Taped and Reeled, Pb-Free; DatasheetVersion: revC, Mar-2006; PackageVersion: rev1, Aug-2006; PackageReference: SO8; PackageDescription: 8-Pin Small Outline Integrated Circuit 1.27 mm Pitch; ComponentLink1Description: Manufacturer URL; ComponentLink1URL: http://www.atmel.com/; ComponentLink2Description: U4083B Datasheet; ComponentLink2URL: http://www.atmel.com/dyn/resources/prod_documents/doc4655.pdf
footprint SO8_N (SOIC, 8-Leads, Body 4.9x3.8mm, Pitch 1.27mm, IPC Medium Density)
footprint SO8_L (SOIC, 8-Leads, Body 4.9x3.8mm, Pitch 1.27mm, IPC High Density)
footprint SO8_M (SOIC, 8-Leads, Body 4.9x3.8mm, Pitch 1.27mm, IPC Low Density)
pins: 1 CD (in), 2 FC2, 3 FC1, 4 VI (in), 5 VO1 (out), 6 VS (power), 7 GND (power), 8 VO2 (out)

## U4083B-MFPY
designator U?
Low-power Audio Amplifier for Telephone Applications, 8-Pin SOIC Pkg, Tube, Pb-Free; DatasheetVersion: revC, Mar-2006; PackageVersion: rev1, Aug-2006; PackageReference: SO8; PackageDescription: 8-Pin Small Outline Integrated Circuit 1.27 mm Pitch; ComponentLink1Description: Manufacturer URL; ComponentLink1URL: http://www.atmel.com/; ComponentLink2Description: U4083B Datasheet; ComponentLink2URL: http://www.atmel.com/dyn/resources/prod_documents/doc4655.pdf
footprint SO8_N (SOIC, 8-Leads, Body 4.9x3.8mm, Pitch 1.27mm, IPC Medium Density)
footprint SO8_L (SOIC, 8-Leads, Body 4.9x3.8mm, Pitch 1.27mm, IPC High Density)
footprint SO8_M (SOIC, 8-Leads, Body 4.9x3.8mm, Pitch 1.27mm, IPC Low Density)
pins: 1 CD (in), 2 FC2, 3 FC1, 4 VI (in), 5 VO1 (out), 6 VS (power), 7 GND (power), 8 VO2 (out)

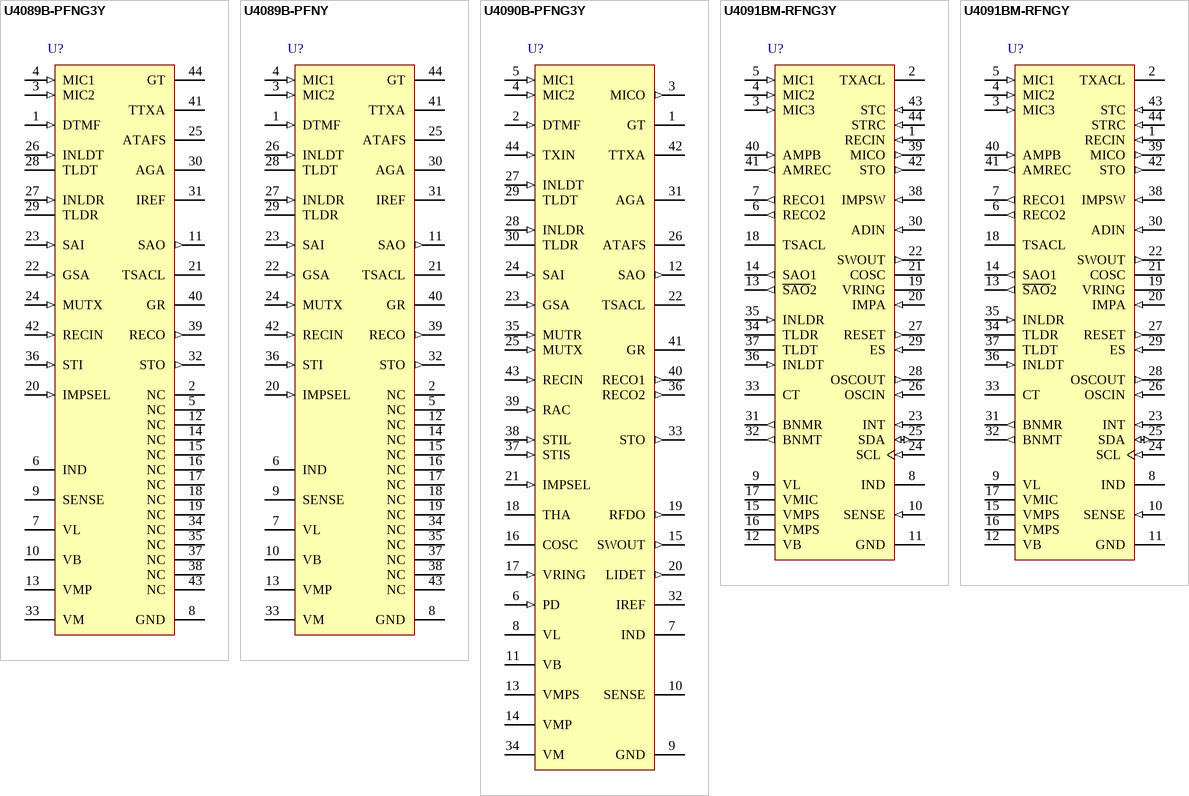
[diagram p8: symbols U4089B-PFNG3Y to U4091BM-RFNGY]

## U4089B-PFNG3Y
designator U?
Monolithic Integrated Feature Phone Circuit, 44-Pin SOP Pkg, Taped and Reeled, Pb-Free; DatasheetVersion: revC, Oct-2005; PackageVersion: 1/10/2005; PackageReference: SSO44; PackageDescription: 44-Pin Small Outline Package, 18.05 x 7.4 x 2.35 mm Body, 0.8 mm Pitch; ComponentLink1Description: Manufacturer URL; ComponentLink1URL: http://www.atmel.com/; ComponentLink2Description: U4089B Datasheet; ComponentLink2URL: http://www.atmel.com/dyn/resources/prod_documents/doc4518.pdf
footprint SSO44_N (SOP, 44-Leads, Body 17.9x7.4mm, Pitch 0.8mm, IPC Medium Density)
footprint SSO44_L (SOP, 44-Leads, Body 17.9x7.4mm, Pitch 0.8mm, IPC High Density)
footprint SSO44_M (SOP, 44-Leads, Body 17.9x7.4mm, Pitch 0.8mm, IPC Low Density)
pins: 1 DTMF (in), 2 NC, 3 MIC2 (in), 4 MIC1 (in), 5 NC, 6 IND, 7 VL (power), 8 GND (power), 9 SENSE, 10 VB (power), 11 SAO (out), 12 NC, 13 VMP (power), 14 NC, 15 NC, 16 NC, 17 NC, 18 NC, 19 NC, 20 IMPSEL (in), 21 TSACL, 22 GSA (in), 23 SAI (in), 24 MUTX (in), 25 ATAFS, 26 INLDT (in), 27 INLDR (in), 28 TLDT, 29 TLDR, 30 AGA, 31 IREF, 32 STO (out), 33 VM (power), 34 NC, 35 NC, 36 STI (in), 37 NC, 38 NC, 39 RECO (out), 40 GR, 41 TTXA, 42 RECIN (in), 43 NC, 44 GT

## U4089B-PFNY
designator U?
Monolithic Integrated Feature Phone Circuit, 44-Pin SOP Pkg, Tubes, Pb-Free; DatasheetVersion: revC, Oct-2005; PackageVersion: 1/10/2005; PackageReference: SSO44; PackageDescription: 44-Pin Small Outline Package, 18.05 x 7.4 x 2.35 mm Body, 0.8 mm Pitch; ComponentLink1Description: Manufacturer URL; ComponentLink1URL: http://www.atmel.com/; ComponentLink2Description: U4089B Datasheet; ComponentLink2URL: http://www.atmel.com/dyn/resources/prod_documents/doc4518.pdf
footprint SSO44_N (SOP, 44-Leads, Body 17.9x7.4mm, Pitch 0.8mm, IPC Medium Density)
footprint SSO44_L (SOP, 44-Leads, Body 17.9x7.4mm, Pitch 0.8mm, IPC High Density)
footprint SSO44_M (SOP, 44-Leads, Body 17.9x7.4mm, Pitch 0.8mm, IPC Low Density)
pins: 1 DTMF (in), 2 NC, 3 MIC2 (in), 4 MIC1 (in), 5 NC, 6 IND, 7 VL (power), 8 GND (power), 9 SENSE, 10 VB (power), 11 SAO (out), 12 NC, 13 VMP (power), 14 NC, 15 NC, 16 NC, 17 NC, 18 NC, 19 NC, 20 IMPSEL (in), 21 TSACL, 22 GSA (in), 23 SAI (in), 24 MUTX (in), 25 ATAFS, 26 INLDT (in), 27 INLDR (in), 28 TLDT, 29 TLDR, 30 AGA, 31 IREF, 32 STO (out), 33 VM (power), 34 NC, 35 NC, 36 STI (in), 37 NC, 38 NC, 39 RECO (out), 40 GR, 41 TTXA, 42 RECIN (in), 43 NC, 44 GT

## U4090B-PFNG3Y
designator U?
Monolithic Integrated Feature Phone Circuit, EMI Improved, 44-Pin SOP Pkg, Taped and Reeled, Pb-Free; DatasheetVersion: revD, Jan-2010; PackageVersion: 1/10/2005; PackageReference: SSO44; PackageDescription: 44-Pin Small Outline Package, 18.05 x 7.4 x 2.35 mm Body, 0.8 mm Pitch; ComponentLink1Description: Manufacturer URL; ComponentLink1URL: http://www.atmel.com/; ComponentLink2Description: U4090B Datasheet; ComponentLink2URL: http://www.atmel.com/dyn/resources/prod_documents/doc4741.pdf
footprint SSO44_N (SOP, 44-Leads, Body 17.9x7.4mm, Pitch 0.8mm, IPC Medium Density)
footprint SSO44_L (SOP, 44-Leads, Body 17.9x7.4mm, Pitch 0.8mm, IPC High Density)
footprint SSO44_M (SOP, 44-Leads, Body 17.9x7.4mm, Pitch 0.8mm, IPC Low Density)
pins: 1 GT, 2 DTMF (in), 3 MICO (out), 4 MIC2 (in), 5 MIC1 (in), 6 PD (in), 7 IND, 8 VL (power), 9 GND (power), 10 SENSE, 11 VB (power), 12 SAO (out), 13 VMPS (power), 14 VMP (power), 15 SWOUT (out), 16 COSC, 17 VRING (in), 18 THA, 19 RFDO (out), 20 LIDET (out), 21 IMPSEL (in), 22 TSACL, 23 GSA (in), 24 SAI (in), 25 MUTX (in), 26 ATAFS, 27 INLDT (in), 28 INLDR (in), 29 TLDT, 30 TLDR, 31 AGA, 32 IREF, 33 STO (out), 34 VM (power), 35 MUTR (in), 36 RECO2 (out), 37 STIS (in), 38 STIL (in), 39 RAC (in), 40 RECO1 (out), 41 GR, 42 TTXA, 43 RECIN (in), 44 TXIN (in)

## U4091BM-RFNG3Y
designator U?
Programmable Telephone Audio Processor, 44-Pin SOP Pkg, Taped and Reeled; DatasheetVersion: revA, Aug-2005; PackageVersion: 1/10/2005; PackageReference: SSO44; PackageDescription: 44-Pin Small Outline Package, 18.05 x 7.4 x 2.35 mm Body, 0.8 mm Pitch; ComponentLink1Description: Manufacturer URL; ComponentLink1URL: http://www.atmel.com/; ComponentLink2Description: U4091BM Datasheet; ComponentLink2URL: http://www.atmel.com/dyn/resources/prod_documents/doc4872.pdf
footprint SSO44_N (SOP, 44-Leads, Body 17.9x7.4mm, Pitch 0.8mm, IPC Medium Density)
footprint SSO44_L (SOP, 44-Leads, Body 17.9x7.4mm, Pitch 0.8mm, IPC High Density)
footprint SSO44_M (SOP, 44-Leads, Body 17.9x7.4mm, Pitch 0.8mm, IPC Low Density)
pins: 1 RECIN (in), 2 TXACL, 3 MIC3 (in), 4 MIC2 (in), 5 MIC1 (in), 6 RECO2 (out), 7 RECO1 (out), 8 IND, 9 VL (power), 10 SENSE (in), 11 GND (power), 12 VB (power), 13 ~{SAO}2 (out), 14 SAO1 (out), 15 VMPS (power), 16 VMPS (power), 17 VMIC (power), 18 TSACL, 19 VRING (power), 20 IMPA (in), 21 COSC, 22 SWOUT (out), 23 INT (in), 24 SCL (in), 25 SDA (io), 26 OSCIN (in), 27 RESET (out), 28 OSCOUT (out), 29 ES (in), 30 ADIN (in), 31 BNMR (out), 32 BNMT (out), 33 CT, 34 TLDR, 35 INLDR (in), 36 INLDT (in), 37 TLDT, 38 IMPSW (in), 39 MICO (out), 40 AMPB (in), 41 AMREC (out), 42 STO (out), 43 STC (in), 44 STRC (in)

## U4091BM-RFNGY
designator U?
Programmable Telephone Audio Processor, 44-Pin SOP Pkg, Tube; DatasheetVersion: revA, Aug-2005; PackageVersion: 1/10/2005; PackageReference: SSO44; PackageDescription: 44-Pin Small Outline Package, 18.05 x 7.4 x 2.35 mm Body, 0.8 mm Pitch; ComponentLink1Description: Manufacturer URL; ComponentLink1URL: http://www.atmel.com/; ComponentLink2Description: U4091BM Datasheet; ComponentLink2URL: http://www.atmel.com/dyn/resources/prod_documents/doc4872.pdf
footprint SSO44_N (SOP, 44-Leads, Body 17.9x7.4mm, Pitch 0.8mm, IPC Medium Density)
footprint SSO44_L (SOP, 44-Leads, Body 17.9x7.4mm, Pitch 0.8mm, IPC High Density)
footprint SSO44_M (SOP, 44-Leads, Body 17.9x7.4mm, Pitch 0.8mm, IPC Low Density)
pins: 1 RECIN (in), 2 TXACL, 3 MIC3 (in), 4 MIC2 (in), 5 MIC1 (in), 6 RECO2 (out), 7 RECO1 (out), 8 IND, 9 VL (power), 10 SENSE (in), 11 GND (power), 12 VB (power), 13 ~{SAO}2 (out), 14 SAO1 (out), 15 VMPS (power), 16 VMPS (power), 17 VMIC (power), 18 TSACL, 19 VRING (power), 20 IMPA (in), 21 COSC, 22 SWOUT (out), 23 INT (in), 24 SCL (in), 25 SDA (io), 26 OSCIN (in), 27 RESET (out), 28 OSCOUT (out), 29 ES (in), 30 ADIN (in), 31 BNMR (out), 32 BNMT (out), 33 CT, 34 TLDR, 35 INLDR (in), 36 INLDT (in), 37 TLDT, 38 IMPSW (in), 39 MICO (out), 40 AMPB (in), 41 AMREC (out), 42 STO (out), 43 STC (in), 44 STRC (in)